# Altium integrated library Analog Devices RF IF Mixers and Multipliers.IntLib: 40 symbols (part 2 of 3)
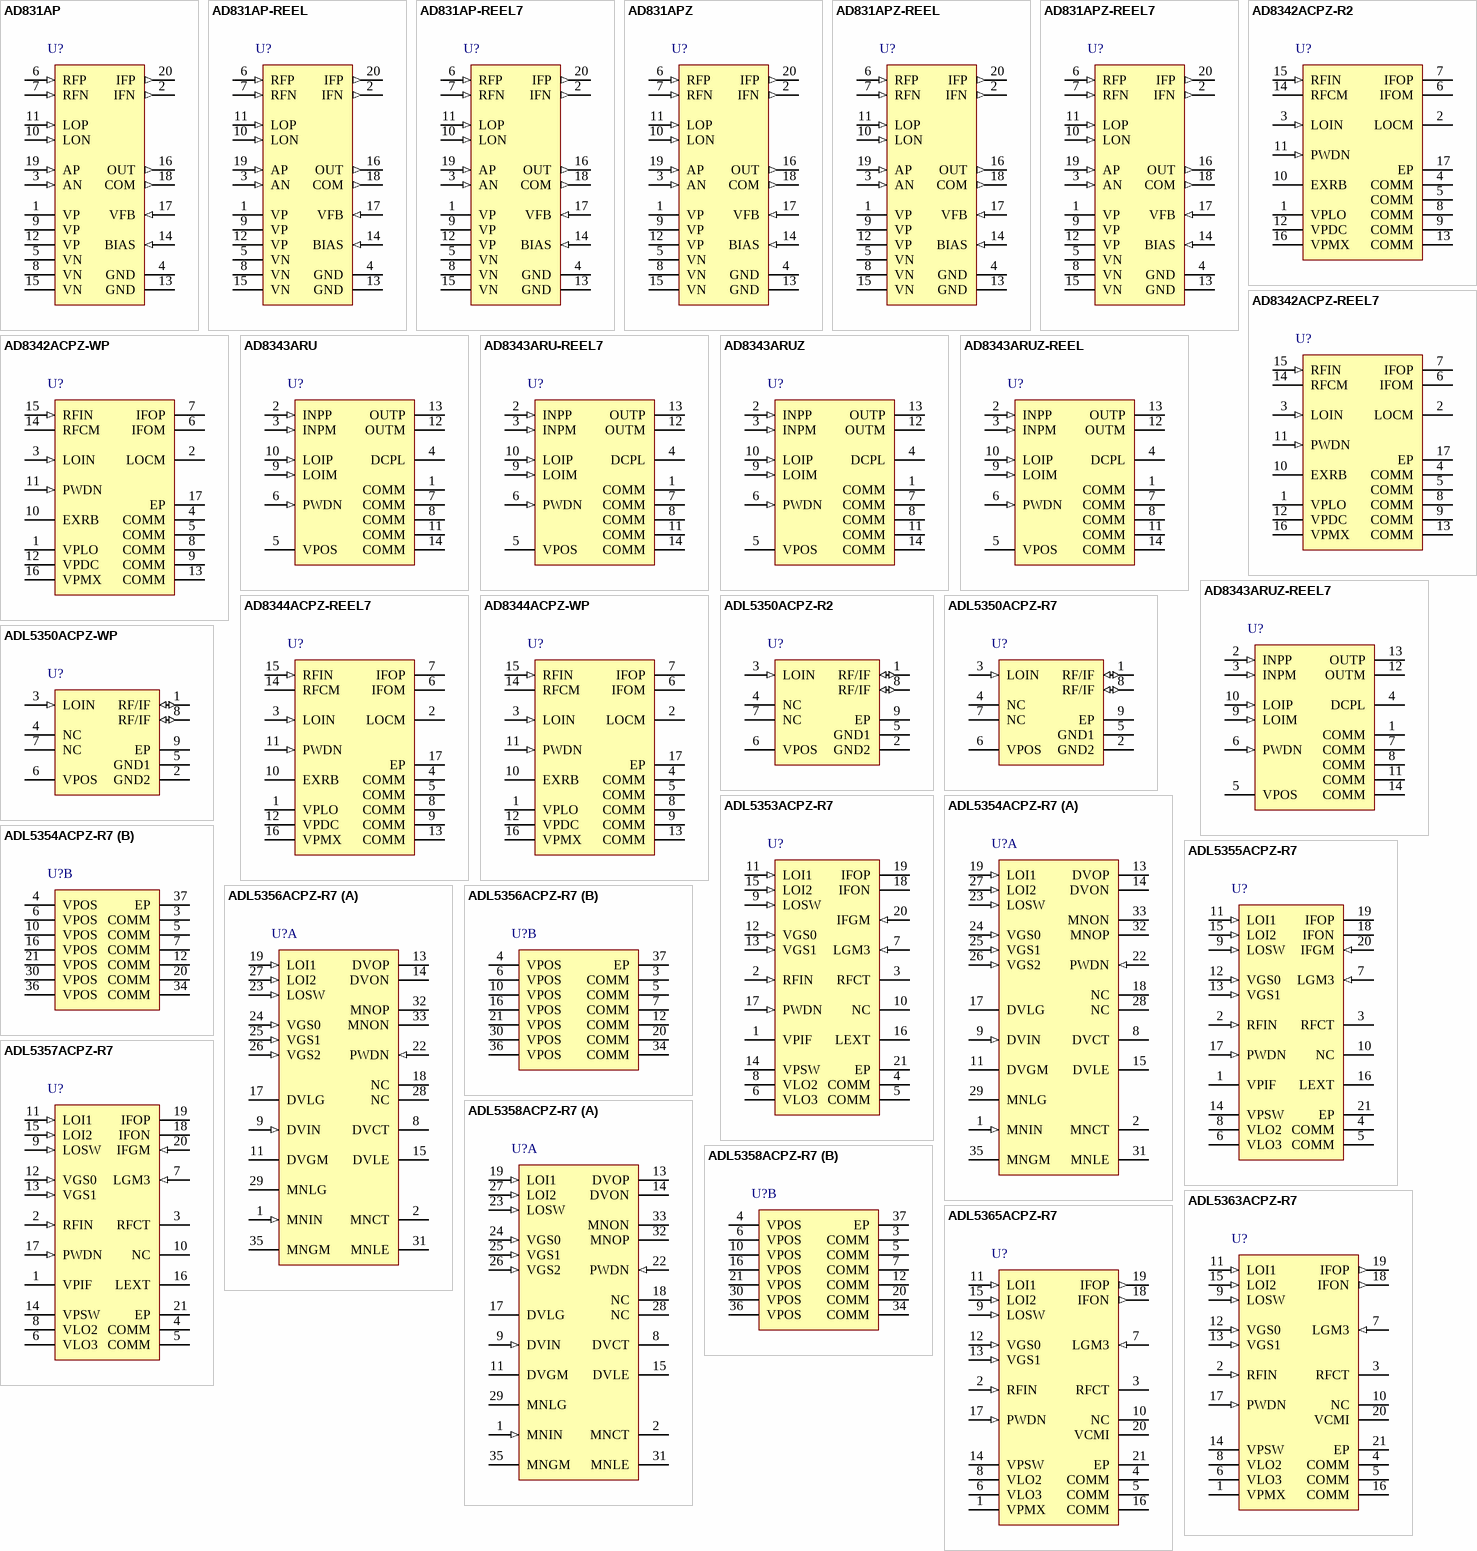
[diagram p2: symbols AD831AP to ADL5365ACPZ-R7]

## ADL5355ACPZ-R7
designator U?
1200 MHz to 2500 MHz Balanced Mixer, LO Buffer, IF Amplifier, and RF Balun, 190mA Supply Current, CP-20-5, Pb-Free, 1500 Reel; RF Frequency (MHZ): 1200-2500; IF Frequency (MHz): 30 to 450; LO Frequency (MHz): 1230 to 2470; Conversion Gain (dB): 8.4dB; IP3 (dBm): 27; P1dB (dBm): 10.4; NF (dB): 9.2dB; DatasheetVersion: Rev. 0; PackageVersion: 042209-B; PackageReference: CP-20-5; PackageDescription: 20-Lead Lead Frame Chip Scale Package [LFCSP_VQ]; Code_JEDEC: MO-220-VHHC; ComponentLink1Description: Manufacturer URL; ComponentLink1URL: www.analog.com; ComponentLink2Description: Datasheet; ComponentLink2URL: http://www.analog.com/static/imported-files/data_sheets/ADL5355.pdf; ComponentLink3Description: Package Specification; ComponentLink3URL: http://www.analog.com/static/imported-files/packages/PKG_PDF/LFCSP(CP)/CP_20_5.pdf
footprint ADI-CP-20-5_N (QFN, 20-Leads, Body 5x5mm, Pitch 0.65mm, Thermal Pad 3.1x3.1mm, IPC Medium Density)
footprint ADI-CP-20-5_L (QFN, 20-Leads, Body 5x5mm, Pitch 0.65mm, Thermal Pad 3.1x3.1mm, IPC High Density)
footprint ADI-CP-20-5_M (QFN, 20-Leads, Body 5x5mm, Pitch 0.65mm, Thermal Pad 3.1x3.1mm, IPC Low Density)
pins: 1 VPIF (power) "Positive Supply Voltage for IF Amplifier.", 2 RFIN (in) "RF Input. Must be ac-coupled.", 3 RFCT "RF Balun Center Tap (AC Ground).", 4 COMM (power) "Device Common (DC Ground).", 5 COMM (power) "Device Common (DC Ground).", 6 VLO3 (power) "Positive Supply Voltages for LO Amplifier.", 7 LGM3 (in) "LO Amplifier Bias Control.", 8 VLO2 (power) "Positive Supply Voltages for LO Amplifier.", 9 LOSW (in) "LO Switch. LOI1 selected for 0 V, and LOI2 selected for 3 V.", 10 NC "No Connect.", 11 LOI1 (in) "LO Inputs. Must be ac-coupled.", 12 VGS0 (in) "Mixer Gate Bias Controls. 3 V logic. Ground these pins for nominal setting.", 13 VGS1 (in) "Mixer Gate Bias Controls. 3 V logic. Ground these pins for nominal setting.", 14 VPSW (power) "Positive Supply Voltage for LO Switch.", 15 LOI2 (in) "LO Inputs. Must be ac-coupled.", 16 LEXT (power) "IF Return. This pin must be grounded.", 17 PWDN (in) "Power Down. Connect this pin to ground for normal operation and connect this pin to 3.0 V for disable mode.", 18 IFON (oc) "Differential IF Outputs (Open Collectors). Each requires an external dc bias.", 19 IFOP (oc) "Differential IF Outputs (Open Collectors). Each requires an external dc bias.", 20 IFGM (in) "IF Amplifier Bias Control.", 21 EP (power) "Exposed pad. Must be soldered to ground."

## ADL5356ACPZ-R7
designator U?
1200 MHz to 2500 MHz, Dual-Balanced Mixer, LO Buffer, IF Amplifier, and RF Balun, 350mA Supply Current, CP-36-1, Pb-Free, 750 Reel; RF Frequency (MHZ): 1200-2500; IF Frequency (MHz): 30 to 450; LO Frequency (MHz): 1230 to 2470; Conversion Gain (dB): 8.2dB; IP3 (dBm): 31; P1dB (dBm): 11; NF (dB): 9.9dB; DatasheetVersion: Rev. 0; PackageVersion: 050808-D; PackageReference: CP-36-1; PackageDescription: 36-Lead Lead Frame Chip Scale Package [LFCSP_VQ]; Code_JEDEC: MO-220-VJJD-1; ComponentLink1Description: Manufacturer URL; ComponentLink1URL: www.analog.com; ComponentLink2Description: Datasheet; ComponentLink2URL: http://www.analog.com/static/imported-files/data_sheets/ADL5356.pdf; ComponentLink3Description: Package Specification; ComponentLink3URL: http://www.analog.com/static/imported-files/packages/CP_36_1.pdf
footprint ADI-CP-36-1_N (QFN, 36-Leads, Body 6x6mm, Pitch 0.5mm, Thermal Pad 3.7x3.7mm, IPC Medium Density)
footprint ADI-CP-36-1_L (QFN, 36-Leads, Body 6x6mm, Pitch 0.5mm, Thermal Pad 3.7x3.7mm, IPC High Density)
footprint ADI-CP-36-1_M (QFN, 36-Leads, Body 6x6mm, Pitch 0.5mm, Thermal Pad 3.7x3.7mm, IPC Low Density)
part A pins: 1 MNIN (in) "RF Input for Main Channel. Internally matched to 50 ohm. Must be ac-coupled.", 2 MNCT "Center Tap for Main Channel Input Balun. Bypass to ground using low inductance capacitor.", 8 DVCT "Center Tap for Diversity Channel Input Balun. Bypass to ground using low inductance capacitor", 9 DVIN (in) "RF Input for Diversity Channel. Internally matched to 50 ohm. Must be ac-coupled", 11 DVGM "Diverstiy Amplifier Bias Setting. Connect 1.3 k ohm resistor to ground for typical operation.", 13 DVOP (oc) "Diversity Channel Differential Open-Collector Outputs. DVOP and DVON should be pulled-up to  VCC using external inductors.", 14 DVON (oc) "Diversity Channel Differential Open-Collector Outputs. DVOP and DVON should be pulled-up to  VCC using external inductors.", 15 DVLE (power) "Diversity Channel IF Return. This pin must be grounded", 17 DVLG "Diverstiy Channel LO Buffer Bias Setting. Connect 1 k ohm resistor to ground for typical operation.", 18 NC "No Connect", 19 LOI1 (in) "Local Oscillator Input 1. Internally matched to 50 ohm. Must be ac-coupled.", 22 PWDN (in) "Connect to Ground for Normal Operation. Connect pin to 3 V for disable mode when using  VPOS < 3.6 V. PWDN pin must be grounded when VPOS > 3.6 V?", 23 LOSW (in) "Local Oscillator Input Selection Switch. Set LOSW high to select LOI1 or set LOSW low to select LOI2.", 24 VGS0 (in) "Gate to Source Control Voltages. For typical operation, set VGS0, VGS1, and VGS2 to low logic level.", 25 VGS1 (in) "Gate to Source Control Voltages. For typical operation, set VGS0, VGS1, and VGS2 to low logic level.", 26 VGS2 (in) "Gate to Source Control Voltages. For typical operation, set VGS0, VGS1, and VGS2 to low logic level.", 27 LOI2 (in) "Local Oscillator Input 2. Internally matched to 50 ohm. Must be ac-coupled.", 28 NC "No Connect", 29 MNLG "Main Channel LO Buffer Bias Setting. Connect 1 k ohm resistor to ground for typical operation.", 31 MNLE (power) "Main Channel IF Return. This pin must be grounded.", 32 MNOP (oc) "Main Channel Differential Open-Collector Outputs. MNOP and MNON should be pulled-up to  VCC using external inductors", 33 MNON (oc) "Main Channel Differential Open-Collector Outputs. MNOP and MNON should be pulled-up to  VCC using external inductors", 35 MNGM "Main Amplifier Bias Setting. Connect 1.3 k ohm resistor to ground for typical operation."
part B pins: 3 COMM (power) "Device Common (DC Ground)", 4 VPOS (power) "Positive Supply Voltage", 5 COMM (power) "Device Common (DC Ground)", 6 VPOS (power) "Positive Supply Voltage", 7 COMM (power) "Device Common (DC Ground)", 10 VPOS (power) "Positive Supply Voltage", 12 COMM (power) "Device Common (DC Ground)", 16 VPOS (power) "Positive Supply Voltage", 20 COMM (power) "Device Common (DC Ground)", 21 VPOS (power) "Positive Supply Voltage", 30 VPOS (power) "Positive Supply Voltage", 34 COMM (power) "Device Common (DC Ground)", 36 VPOS (power) "Positive Supply Voltage", 37 EP (power) "Exposed pad must be connected to ground."

## ADL5357ACPZ-R7
designator U?
500 MHz to 1700 MHz Balanced Mixer, LO Buffer, IF Amplifier, and RF Balun, 190mA Supply Current, CP-20-5, Pb-Free, 1500 Reel; RF Frequency (MHZ): 500-1700; IF Frequency (MHz): 30 to 450; LO Frequency (MHz): 730 to 1670; Conversion Gain (dB): 8.6dB; IP3 (dBm): 26.6; P1dB (dBm): 10.2; NF (dB): 9.1dB; DatasheetVersion: Rev. 0; PackageVersion: 042209-B; PackageReference: CP-20-5; PackageDescription: 20-Lead Lead Frame Chip Scale Package [LFCSP_VQ]; Code_JEDEC: MO-220-VHHC; ComponentLink1Description: Manufacturer URL; ComponentLink1URL: www.analog.com; ComponentLink2Description: Datasheet; ComponentLink2URL: http://www.analog.com/static/imported-files/data_sheets/ADL5357.pdf; ComponentLink3Description: Package Specification; ComponentLink3URL: http://www.analog.com/static/imported-files/packages/PKG_PDF/LFCSP(CP)/CP_20_5.pdf
footprint ADI-CP-20-5_N (QFN, 20-Leads, Body 5x5mm, Pitch 0.65mm, Thermal Pad 3.1x3.1mm, IPC Medium Density)
footprint ADI-CP-20-5_L (QFN, 20-Leads, Body 5x5mm, Pitch 0.65mm, Thermal Pad 3.1x3.1mm, IPC High Density)
footprint ADI-CP-20-5_M (QFN, 20-Leads, Body 5x5mm, Pitch 0.65mm, Thermal Pad 3.1x3.1mm, IPC Low Density)
pins: 1 VPIF (power) "Positive Supply Voltage for IF Amplifier.", 2 RFIN (in) "RF Input. Must be ac-coupled.", 3 RFCT "RF Balun Center Tap (AC Ground)", 4 COMM (power) "Device Common (DC Ground).", 5 COMM (power) "Device Common (DC Ground).", 6 VLO3 (power) "Positive Supply Voltages for LO Amplifier.", 7 LGM3 (in) "LO Amplifier Bias Control.", 8 VLO2 (power) "Positive Supply Voltages for LO Amplifier.", 9 LOSW (in) "LO Switch. LOI1 selected for 0 V, and LOI2 selected for 3 V.", 10 NC "No Connect.", 11 LOI1 (in) "LO Inputs. Must be ac-coupled.", 12 VGS0 (in) "Mixer Gate Bias Controls. 3 V logic. Ground these pins for nominal setting.", 13 VGS1 (in) "Mixer Gate Bias Controls. 3 V logic. Ground these pins for nominal setting.", 14 VPSW (power) "Positive Supply Voltage for LO Switch.", 15 LOI2 (in) "LO Inputs. Must be ac-coupled.", 16 LEXT (power) "IF Return. This pin must be grounded.", 17 PWDN (in) "Power Down. Connect this pin to ground for normal operation and connect this pin to 3.0 V for disable mode.", 18 IFON (oc) "Differential IF Outputs (Open Collectors). Each requires an external dc bias.", 19 IFOP (oc) "Differential IF Outputs (Open Collectors). Each requires an external dc bias.", 20 IFGM (in) "IF Amplifier Bias Control.", 21 EP (power) "Exposed pad. Must be soldered to ground."

## ADL5358ACPZ-R7
designator U?
500 MHz to 1700 MHz, Dual-Balanced Mixer, LO Buffer, IF Amplifier, and RF Balun, 350mA Supply Current, CP-36-1, Pb-Free, 750 Reel; RF Frequency (MHZ): 500-1700; IF Frequency (MHz): 30 to 450; LO Frequency (MHz): 530-1670; Conversion Gain (dB): 8.3dB; IP3 (dBm): 25.2; P1dB (dBm): 10.6; NF (dB): 9.9dB; DatasheetVersion: Rev. 0; PackageVersion: 050808-D; PackageReference: CP-36-1; PackageDescription: 36-Lead Lead Frame Chip Scale Package [LFCSP_VQ]; Code_JEDEC: MO-220-VJJD-1; ComponentLink1Description: Manufacturer URL; ComponentLink1URL: www.analog.com; ComponentLink2Description: Datasheet; ComponentLink2URL: http://www.analog.com/static/imported-files/data_sheets/ADL5358.pdf; ComponentLink3Description: Package Specification; ComponentLink3URL: http://www.analog.com/static/imported-files/packages/CP_36_1.pdf
footprint ADI-CP-36-1_N (QFN, 36-Leads, Body 6x6mm, Pitch 0.5mm, Thermal Pad 3.7x3.7mm, IPC Medium Density)
footprint ADI-CP-36-1_L (QFN, 36-Leads, Body 6x6mm, Pitch 0.5mm, Thermal Pad 3.7x3.7mm, IPC High Density)
footprint ADI-CP-36-1_M (QFN, 36-Leads, Body 6x6mm, Pitch 0.5mm, Thermal Pad 3.7x3.7mm, IPC Low Density)
part A pins: 1 MNIN (in) "RF Input for Main Channel. Internally matched to 50 ohm. This pin must be ac-coupled.", 2 MNCT "Center Tap for Main Channel Input Balun. Bypass this pin to ground using low inductance capacitor.", 8 DVCT "Center Tap for Diversity Channel Input Balun. Bypass to ground using low inductance capacitor.", 9 DVIN (in) "RF Input for Diversity Channel. Internally matched to 50 ohm. This pin must be ac-coupled.", 11 DVGM "Diverstiy Amplifier Bias Setting. Connect a 1.3 k ohm resistor to ground for typical operation.", 13 DVOP (oc) "Diversity Channel Differential Open-Collector Outputs. DVOP and DVON should be pulled-up to  VCC using external inductors.", 14 DVON (oc) "Diversity Channel Differential Open-Collector Outputs. DVOP and DVON should be pulled-up to  VCC using external inductors.", 15 DVLE (power) "Diversity Channel IF Return. This pin must be grounded.", 17 DVLG "Diverstiy Channel LO Buffer Bias Setting. Connect a 1 k ohm resistor to ground for typical operation.", 18 NC "No Connect.", 19 LOI1 (in) "Local Oscillator Input 1. Internally matched to 50 ohm. This pin must be ac-coupled.", 22 PWDN (in) "Connect to Ground for Normal Operation. Connect this pin to 3 V for disable mode when using  VPOS < 3.6 V. PWDN pin must be grounded when VPOS > 3.6 V.", 23 LOSW (in) "Local Oscillator Input Selection Switch. Set LOSW high to select LOI1 or set LOSW low to select LOI2.", 24 VGS0 (in) "Gate to Source Control Voltages. For typical operation, set VGS0, VGS1, and VGS2 to low logic level.", 25 VGS1 (in) "Gate to Source Control Voltages. For typical operation, set VGS0, VGS1, and VGS2 to low logic level.", 26 VGS2 (in) "Gate to Source Control Voltages. For typical operation, set VGS0, VGS1, and VGS2 to low logic level.", 27 LOI2 (in) "Local Oscillator Input 2. Internally matched to 50 ohm. This pin must be ac-coupled.", 28 NC "No Connect.", 29 MNLG "Main Channel LO Buffer Bias Setting. Connect a 1 k ohm resistor to ground for typical operation.", 31 MNLE (power) "Main Channel IF Return. This pin must be grounded.", 32 MNOP (oc) "Main Channel Differential Open-Collector Outputs. MNOP and MNON should be pulled-up to  VCC using external inductors.", 33 MNON (oc) "Main Channel Differential Open-Collector Outputs. MNOP and MNON should be pulled-up to  VCC using external inductors.", 35 MNGM "Main Amplifier Bias Setting. Connect a 1.3 k ohm resistor to ground for typical operation."
part B pins: 3 COMM (power) "Device Common (DC Ground).", 4 VPOS (power) "Positive Supply Voltage.", 5 COMM (power) "Device Common (DC Ground).", 6 VPOS (power) "Positive Supply Voltage.", 7 COMM (power) "Device Common (DC Ground).", 10 VPOS (power) "Positive Supply Voltage.", 12 COMM (power) "Device Common (DC Ground).", 16 VPOS (power) "Positive Supply Voltage.", 20 COMM (power) "Device Common (DC Ground).", 21 VPOS (power) "Positive Supply Voltage.", 30 VPOS (power) "Positive Supply Voltage.", 34 COMM (power) "Device Common (DC Ground).", 36 VPOS (power) "Positive Supply Voltage.", 37 EP (power) "Exposed pad must be connected to ground"

## ADL5363ACPZ-R7
designator U?
2300 MHz to 2900 MHz Balanced Mixer, LO Buffer and RF Balun, 98mA Supply Current, CP-20-5, Pb-Free, 1500 Reel; RF Frequency (MHZ): 2200 to 2900; IF Frequency (MHz): dc to 450; LO Frequency (MHz): 2400 to 3100; Conversion Gain (dB): 7.8dB; IP3 (dBm): 31.2; P1dB (dBm): 20; NF (dB): 9.2dB; DatasheetVersion: Rev. 0; PackageVersion: 042209-B; PackageReference: CP-20-5; PackageDescription: 20-Lead Lead Frame Chip Scale Package [LFCSP_VQ]; Code_JEDEC: MO-220-VHHC; ComponentLink1Description: Manufacturer URL; ComponentLink1URL: www.analog.com; ComponentLink2Description: Datasheet; ComponentLink2URL: http://www.analog.com/static/imported-files/data_sheets/ADL5363.pdf; ComponentLink3Description: Package Specification; ComponentLink3URL: http://www.analog.com/static/imported-files/packages/PKG_PDF/LFCSP(CP)/CP_20_5.pdf
footprint ADI-CP-20-5_N (QFN, 20-Leads, Body 5x5mm, Pitch 0.65mm, Thermal Pad 3.1x3.1mm, IPC Medium Density)
footprint ADI-CP-20-5_L (QFN, 20-Leads, Body 5x5mm, Pitch 0.65mm, Thermal Pad 3.1x3.1mm, IPC High Density)
footprint ADI-CP-20-5_M (QFN, 20-Leads, Body 5x5mm, Pitch 0.65mm, Thermal Pad 3.1x3.1mm, IPC Low Density)
pins: 1 VPMX (power) "Positive Supply Voltage.", 2 RFIN (in) "RF Input. Must be ac-coupled.", 3 RFCT "RF Balun Center Tap (AC Ground)", 4 COMM (power) "Device Common (DC Ground)", 5 COMM (power) "Device Common (DC Ground)", 6 VLO3 (power) "Positive Supply Voltages for LO Amplifier", 7 LGM3 (in) "LO Amplifier Bias Control.", 8 VLO2 (power) "Positive Supply Voltages for LO Amplifier.", 9 LOSW (in) "LO Switch. LOI1 selected for 0 V, and LOI2 selected for 3 V.", 10 NC "No Connect.", 11 LOI1 (in) "LO Inputs. Must be ac-coupled.", 12 VGS0 (in) "Mixer Gate Bias Controls. 3 V logic. Ground these pins for nominal setting", 13 VGS1 (in) "Mixer Gate Bias Controls. 3 V logic. Ground these pins for nominal setting", 14 VPSW (power) "Positive Supply Voltage for LO Switch.", 15 LOI2 (in) "LO Inputs. Must be ac-coupled.", 16 COMM (power) "Device Common (DC Ground)", 17 PWDN (in) "Power Down. Connect this pin to ground for normal operation and connect this pin to 3.0 V for disable mode.", 18 IFON (out) "Differential IF Outputs.", 19 IFOP (out) "Differential IF Outputs.", 20 VCMI "No Connect. This pin can be grounded.", 21 EP (power) "Exposed pad. Must be soldered to ground."

## ADL5365ACPZ-R7
designator U?
1200 MHz to 2500 MHz Balanced Mixer, LO Buffer and RF Balun, 95mA Supply Current, CP-20-5, Pb-Free, 1500 Reel; RF Frequency (MHZ): 1200-2500; IF Frequency (MHz): dc to 450; LO Frequency (MHz): 1230 to 2470; Conversion Gain (dB): 7.3dB; IP3 (dBm): 36; NF (dB): 8.3dB; DatasheetVersion: Rev. 0; PackageVersion: 042209-B; PackageReference: CP-20-5; PackageDescription: 20-Lead Lead Frame Chip Scale Package [LFCSP_VQ]; Code_JEDEC: MO-220-VHHC; ComponentLink1Description: Manufacturer URL; ComponentLink1URL: www.analog.com; ComponentLink2Description: Datasheet; ComponentLink2URL: http://www.analog.com/static/imported-files/data_sheets/ADL5365.pdf; ComponentLink3Description: Package Specification; ComponentLink3URL: http://www.analog.com/static/imported-files/packages/PKG_PDF/LFCSP(CP)/CP_20_5.pdf
footprint ADI-CP-20-5_N (QFN, 20-Leads, Body 5x5mm, Pitch 0.65mm, Thermal Pad 3.1x3.1mm, IPC Medium Density)
footprint ADI-CP-20-5_L (QFN, 20-Leads, Body 5x5mm, Pitch 0.65mm, Thermal Pad 3.1x3.1mm, IPC High Density)
footprint ADI-CP-20-5_M (QFN, 20-Leads, Body 5x5mm, Pitch 0.65mm, Thermal Pad 3.1x3.1mm, IPC Low Density)
pins: 1 VPMX (power) "Positive Supply Voltage.", 2 RFIN (in) "RF Input. Must be ac-coupled", 3 RFCT "RF Balun Center Tap (AC Ground).", 4 COMM (power) "Device Common (DC Ground).", 5 COMM (power) "Device Common (DC Ground).", 6 VLO3 (power) "Positive Supply Voltages for LO Amplifier.", 7 LGM3 (in) "LO Amplifier Bias Control.", 8 VLO2 (power) "Positive Supply Voltages for LO Amplifier.", 9 LOSW (in) "LO Switch. LOI1 selected for 0 V, or LOI2 selected for 3 V.", 10 NC "No Connect.", 11 LOI1 (in) "LO Inputs. These pins must be ac-coupled.", 12 VGS0 (in) "Mixer Gate Bias Controls. 3 V logic. Ground these pins for nominal setting.", 13 VGS1 (in) "Mixer Gate Bias Controls. 3 V logic. Ground these pins for nominal setting.", 14 VPSW (power) "Positive Supply Voltage for LO Switch.", 15 LOI2 (in) "LO Inputs. These pins must be ac-coupled.", 16 COMM (power) "Device Common (DC Ground).", 17 PWDN (in) "Power-Down. Connect this pin to ground for normal operation or connect this pin to 3.0 V for disable mode.", 18 IFON (out) "Differential IF Outputs", 19 IFOP (out) "Differential IF Outputs", 20 VCMI "No Connect. This pin can be grounded.", 21 EP (power) "Exposed pad must be soldered to ground."

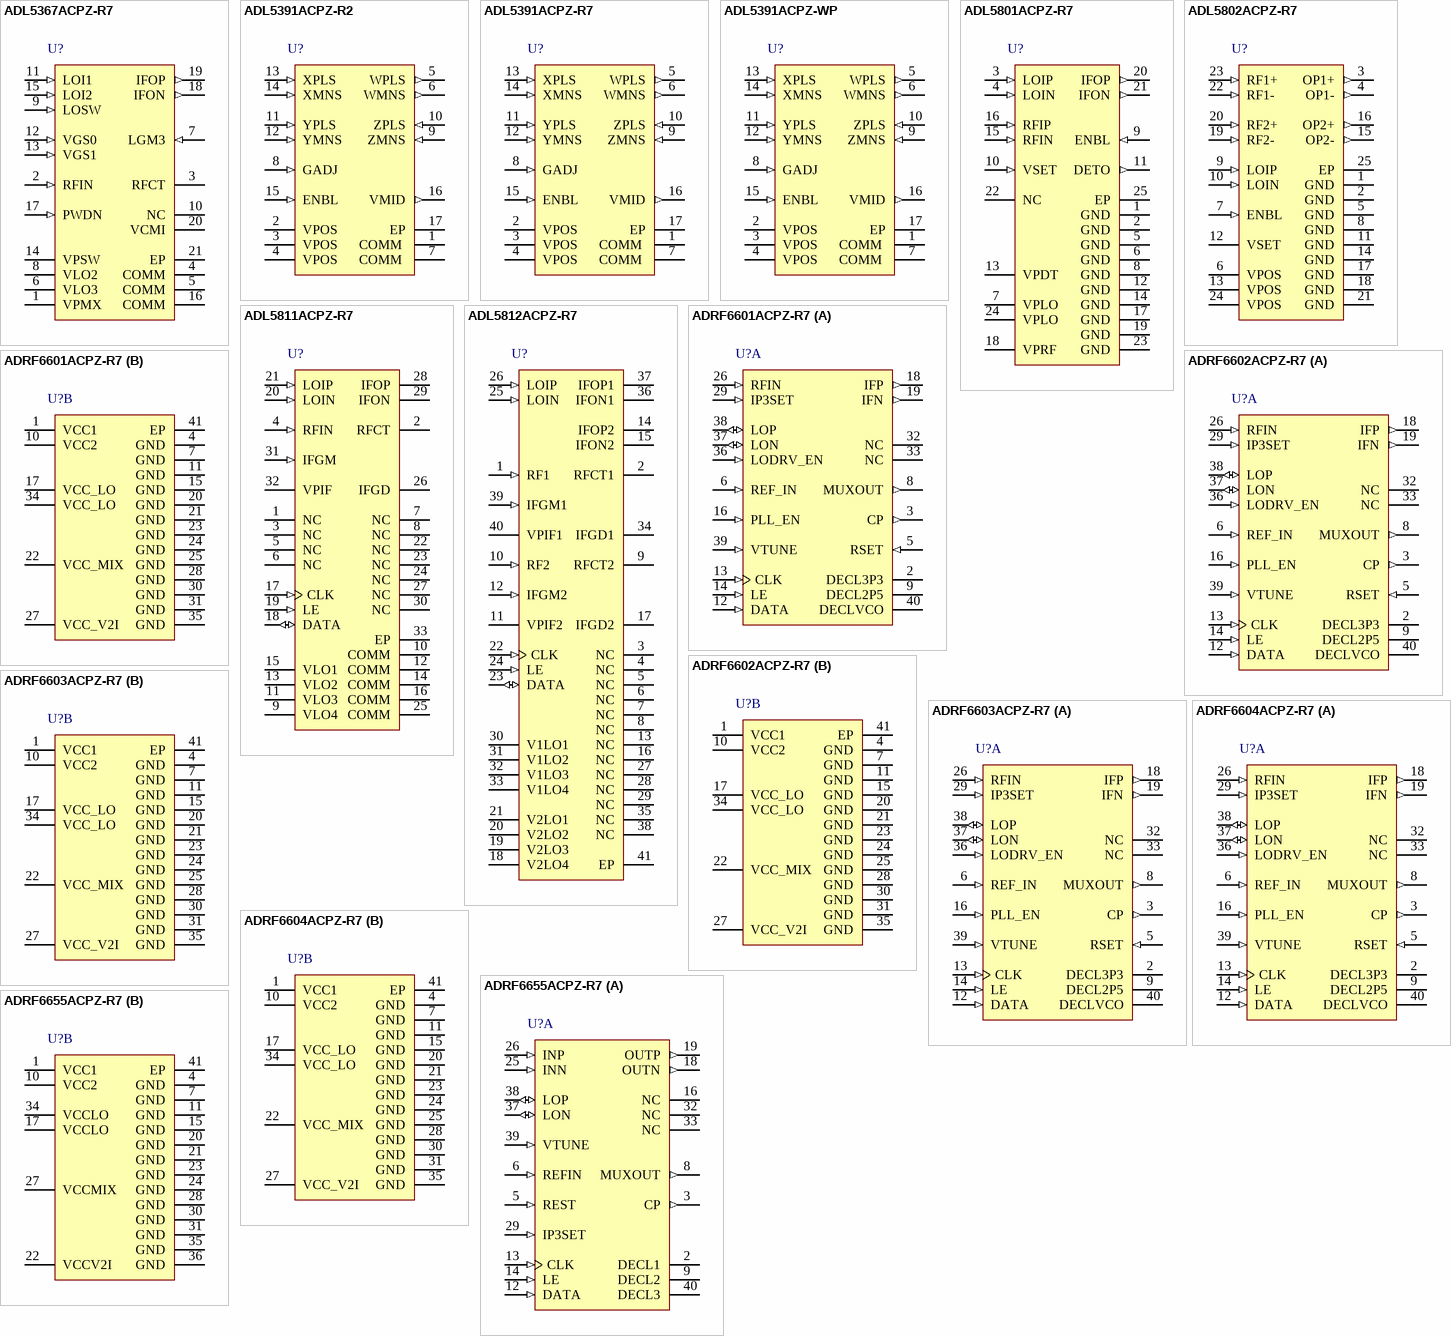
[diagram p1: symbols ADL5367ACPZ-R7 to ADRF6655ACPZ-R7]

## ADL5367ACPZ-R7
designator U?
500 MHz to 1700 MHz Balanced Mixer, LO Buffer and RF Balun, 97mA Supply Current, CP-20-5, Pb-Free, 1500 Reel; RF Frequency (MHZ): 500-1700; IF Frequency (MHz): dc to 450; LO Frequency (MHz): 730 to 1670; Conversion Gain (dB): 7.7dB; IP3 (dBm): 34; NF (dB): 8.3dB; DatasheetVersion: Rev. 0; PackageVersion: 042209-B; PackageReference: CP-20-5; PackageDescription: 20-Lead Lead Frame Chip Scale Package [LFCSP_VQ]; Code_JEDEC: MO-220-VHHC; ComponentLink1Description: Manufacturer URL; ComponentLink1URL: www.analog.com; ComponentLink2Description: Datasheet; ComponentLink2URL: http://www.analog.com/static/imported-files/data_sheets/ADL5367.pdf; ComponentLink3Description: Package Specification; ComponentLink3URL: http://www.analog.com/static/imported-files/packages/PKG_PDF/LFCSP(CP)/CP_20_5.pdf
footprint ADI-CP-20-5_N (QFN, 20-Leads, Body 5x5mm, Pitch 0.65mm, Thermal Pad 3.1x3.1mm, IPC Medium Density)
footprint ADI-CP-20-5_L (QFN, 20-Leads, Body 5x5mm, Pitch 0.65mm, Thermal Pad 3.1x3.1mm, IPC High Density)
footprint ADI-CP-20-5_M (QFN, 20-Leads, Body 5x5mm, Pitch 0.65mm, Thermal Pad 3.1x3.1mm, IPC Low Density)
pins: 1 VPMX (power) "Positive Supply Voltage for IF Amplifier.", 2 RFIN (in) "RF Input. This pin must be ac-coupled.", 3 RFCT "RF Balun Center Tap (AC Ground).", 4 COMM (power) "Device Common (DC Ground).", 5 COMM (power) "Device Common (DC Ground).", 6 VLO3 (power) "Positive Supply Voltages for LO Amplifier.", 7 LGM3 (in) "LO Amplifier Bias Control.", 8 VLO2 (power) "Positive Supply Voltages for LO Amplifier.", 9 LOSW (in) "LO Switch. LOI1 selected for 0 V, or LOI2 selected for 3 V", 10 NC "No Connect.", 11 LOI1 (in) "LO Inputs. This pin must be ac-coupled.", 12 VGS0 (in) "Mixer Gate Bias Controls. 3 V logic. Ground these pins for nominal setting.", 13 VGS1 (in) "Mixer Gate Bias Controls. 3 V logic. Ground these pins for nominal setting.", 14 VPSW (power) "Positive Supply Voltage for LO Switch.", 15 LOI2 (in) "LO Inputs. This pin must be ac-coupled.", 16 COMM (power) "Device Common (DC Ground)", 17 PWDN (in) "Power-Down. Connect this pin to ground for normal operation or connect this pin to 3.0 V for disable mode.", 18 IFON (out) "Differential IF Outputs", 19 IFOP (out) "Differential IF Outputs", 20 VCMI "No Connect. This pin can be grounded.", 21 EP (power) "Exposed pad must be soldered to ground."

## ADL5391ACPZ-R2
designator U?
DC to 2.0 GHz Multiplier, 16-Lead LFCSP, 1dB, 5.5V, 135mA, CP-16-3, Pb-Free, 250 Reel; RF Frequency (MHZ): dc to 2000; IP3 (dBm): 14; P1dB (dBm): 13.2; Min Pos Supply: 4.5V; DatasheetVersion: Rev. 0; PackageVersion: Jan-2005; PackageReference: CP-16-3; PackageDescription: 16-Lead Lead Frame Chip Scale Package [LFCSP_VQ]; Voltage Supply (V): 5.5V; Code_JEDEC: MO-220-VEED-2; ComponentLink1Description: Manufacturer URL; ComponentLink1URL: www.analog.com; ComponentLink2Description: Datasheet; ComponentLink2URL: http://www.analog.com/static/imported-files/data_sheets/ADL5391.pdf; ComponentLink3Description: Package Specification; ComponentLink3URL: http://www.analog.com/static/imported-files/packages/PKG_PDF/LFCSP(CP)/CP_16_3.pdf
footprint ADI-CP-16-3_N (QFN, 16-Leads, Body 3x3mm, Pitch 0.5mm, Thermal Pad 1.5x1.5mm, IPC Medium Density)
footprint ADI-CP-16-3_L (QFN, 16-Leads, Body 3x3mm, Pitch 0.5mm, Thermal Pad 1.5x1.5mm, IPC High Density)
footprint ADI-CP-16-3_M (QFN, 16-Leads, Body 3x3mm, Pitch 0.5mm, Thermal Pad 1.5x1.5mm, IPC Low Density)
pins: 1 COMM  (power) "Device Common. Connect via lowest possible impedance to external circuit common.", 2 VPOS (power) "Positive Supply Voltage. 4.5 V to 5.5 V.", 3 VPOS (power) "Positive Supply Voltage. 4.5 V to 5.5 V.", 4 VPOS (power) "Positive Supply Voltage. 4.5 V to 5.5 V.", 5 WPLS (out) "Differential Outputs.", 6 WMNS (out) "Differential Outputs.", 7 COMM  (power) "Device Common. Connect via lowest possible impedance to external circuit common.", 8 GADJ (in) "Denominator Scaling Input.", 9 ZMNS (in) "Differential Intercept Inputs. Must be ac-coupled. Differential impedance 50 O nominal.", 10 ZPLS (in) "Differential Intercept Inputs. Must be ac-coupled. Differential impedance 50 O nominal.", 11 YPLS (in) "Differential X-Multiplicand Inputs.", 12 YMNS (in) "Differential X-Multiplicand Inputs.", 13 XPLS (in) "Differential Y-Multiplicand Inputs.", 14 XMNS (in) "Differential Y-Multiplicand Inputs.", 15 ENBL (in) "Chip Enable. High to enable.", 16 VMID (out) "VPOS/2 Reference Output. Connect decoupling capacitor to circuit common.", 17 EP (power) "Exposed paddle"

## ADL5391ACPZ-R7
designator U?
DC to 2.0 GHz Multiplier, 16-Lead LFCSP, 1dB, 5.5V, 135mA, CP-16-3, Pb-Free, 1500 Reel; RF Frequency (MHZ): dc to 2000; IP3 (dBm): 14; P1dB (dBm): 13.2; Min Pos Supply: 4.5V; DatasheetVersion: Rev. 0; PackageVersion: Jan-2005; PackageReference: CP-16-3; PackageDescription: 16-Lead Lead Frame Chip Scale Package [LFCSP_VQ]; Voltage Supply (V): 5.5V; Code_JEDEC: MO-220-VEED-2; ComponentLink1Description: Manufacturer URL; ComponentLink1URL: www.analog.com; ComponentLink2Description: Datasheet; ComponentLink2URL: http://www.analog.com/static/imported-files/data_sheets/ADL5391.pdf; ComponentLink3Description: Package Specification; ComponentLink3URL: http://www.analog.com/static/imported-files/packages/PKG_PDF/LFCSP(CP)/CP_16_3.pdf
footprint ADI-CP-16-3_N (QFN, 16-Leads, Body 3x3mm, Pitch 0.5mm, Thermal Pad 1.5x1.5mm, IPC Medium Density)
footprint ADI-CP-16-3_L (QFN, 16-Leads, Body 3x3mm, Pitch 0.5mm, Thermal Pad 1.5x1.5mm, IPC High Density)
footprint ADI-CP-16-3_M (QFN, 16-Leads, Body 3x3mm, Pitch 0.5mm, Thermal Pad 1.5x1.5mm, IPC Low Density)
pins: 1 COMM  (power) "Device Common. Connect via lowest possible impedance to external circuit common.", 2 VPOS (power) "Positive Supply Voltage. 4.5 V to 5.5 V.", 3 VPOS (power) "Positive Supply Voltage. 4.5 V to 5.5 V.", 4 VPOS (power) "Positive Supply Voltage. 4.5 V to 5.5 V.", 5 WPLS (out) "Differential Outputs.", 6 WMNS (out) "Differential Outputs.", 7 COMM  (power) "Device Common. Connect via lowest possible impedance to external circuit common.", 8 GADJ (in) "Denominator Scaling Input.", 9 ZMNS (in) "Differential Intercept Inputs. Must be ac-coupled. Differential impedance 50 O nominal.", 10 ZPLS (in) "Differential Intercept Inputs. Must be ac-coupled. Differential impedance 50 O nominal.", 11 YPLS (in) "Differential X-Multiplicand Inputs.", 12 YMNS (in) "Differential X-Multiplicand Inputs.", 13 XPLS (in) "Differential Y-Multiplicand Inputs.", 14 XMNS (in) "Differential Y-Multiplicand Inputs.", 15 ENBL (in) "Chip Enable. High to enable.", 16 VMID (out) "VPOS/2 Reference Output. Connect decoupling capacitor to circuit common.", 17 EP (power) "Exposed paddle"

## ADL5391ACPZ-WP
designator U?
DC to 2.0 GHz Multiplier, 16-Lead LFCSP, 1dB, 5.5V, 135mA, CP-16-3, Pb-Free, 50 Tray; RF Frequency (MHZ): dc to 2000; IP3 (dBm): 14; P1dB (dBm): 13.2; Min Pos Supply: 4.5V; DatasheetVersion: Rev. 0; PackageVersion: Jan-2005; PackageReference: CP-16-3; PackageDescription: 16-Lead Lead Frame Chip Scale Package [LFCSP_VQ]; Voltage Supply (V): 5.5V; Code_JEDEC: MO-220-VEED-2; ComponentLink1Description: Manufacturer URL; ComponentLink1URL: www.analog.com; ComponentLink2Description: Datasheet; ComponentLink2URL: http://www.analog.com/static/imported-files/data_sheets/ADL5391.pdf; ComponentLink3Description: Package Specification; ComponentLink3URL: http://www.analog.com/static/imported-files/packages/PKG_PDF/LFCSP(CP)/CP_16_3.pdf
footprint ADI-CP-16-3_N (QFN, 16-Leads, Body 3x3mm, Pitch 0.5mm, Thermal Pad 1.5x1.5mm, IPC Medium Density)
footprint ADI-CP-16-3_L (QFN, 16-Leads, Body 3x3mm, Pitch 0.5mm, Thermal Pad 1.5x1.5mm, IPC High Density)
footprint ADI-CP-16-3_M (QFN, 16-Leads, Body 3x3mm, Pitch 0.5mm, Thermal Pad 1.5x1.5mm, IPC Low Density)
pins: 1 COMM  (power) "Device Common. Connect via lowest possible impedance to external circuit common.", 2 VPOS (power) "Positive Supply Voltage. 4.5 V to 5.5 V.", 3 VPOS (power) "Positive Supply Voltage. 4.5 V to 5.5 V.", 4 VPOS (power) "Positive Supply Voltage. 4.5 V to 5.5 V.", 5 WPLS (out) "Differential Outputs.", 6 WMNS (out) "Differential Outputs.", 7 COMM  (power) "Device Common. Connect via lowest possible impedance to external circuit common.", 8 GADJ (in) "Denominator Scaling Input.", 9 ZMNS (in) "Differential Intercept Inputs. Must be ac-coupled. Differential impedance 50 O nominal.", 10 ZPLS (in) "Differential Intercept Inputs. Must be ac-coupled. Differential impedance 50 O nominal.", 11 YPLS (in) "Differential X-Multiplicand Inputs.", 12 YMNS (in) "Differential X-Multiplicand Inputs.", 13 XPLS (in) "Differential Y-Multiplicand Inputs.", 14 XMNS (in) "Differential Y-Multiplicand Inputs.", 15 ENBL (in) "Chip Enable. High to enable.", 16 VMID (out) "VPOS/2 Reference Output. Connect decoupling capacitor to circuit common.", 17 EP (power) "Exposed paddle"

## ADL5801ACPZ-R7
designator U?
High IP3, 10 MHz to 6 GHz, Active Mixer, 130mA Supply Current, CP-24-3, Pb-Free, 1500 Reel; RF Frequency (MHZ): 10 to 6000; IF Frequency (MHz): LF to 3000; Conversion Gain (dB): 1.8dB; IP3 (dBm): 28.5; P1dB (dBm): 13.3; NF (dB): 9.75dB; DatasheetVersion: Rev. A; PackageVersion: Jan-2005; PackageReference: CP-24-3; PackageDescription: 24-Lead Lead Frame Chip Scale Package [LFCSP_VQ]; LO Frequency (MHz): 10 to 6000; Code_JEDEC: MO-220-VGGD-8; ComponentLink1Description: Manufacturer URL; ComponentLink1URL: www.analog.com; ComponentLink2Description: Datasheet; ComponentLink2URL: http://www.analog.com/static/imported-files/data_sheets/ADL5801.pdf; ComponentLink3Description: Package Specification; ComponentLink3URL: http://www.analog.com/static/imported-files/packages/56702234806764CP_24_3.pdf
footprint ADI-CP-24-3_N (QFN, 24-Leads, Body 4x4mm, Pitch 0.5mm, Thermal Pad 2.5x2.5mm, IPC Medium Density)
footprint ADI-CP-24-3_L (QFN, 24-Leads, Body 4x4mm, Pitch 0.5mm, Thermal Pad 2.5x2.5mm, IPC High Density)
footprint ADI-CP-24-3_M (QFN, 24-Leads, Body 4x4mm, Pitch 0.5mm, Thermal Pad 2.5x2.5mm, IPC Low Density)
pins: 1 GND (power) "Device Common (DC Ground).", 2 GND (power) "Device Common (DC Ground).", 3 LOIP (in) "Differential LO Input Terminal. Internally matched to 50 ohm. Must be ac-coupled.", 4 LOIN (in) "Differential LO Input Terminal. Internally matched to 50 ohm. Must be ac-coupled.", 5 GND (power) "Device Common (DC Ground).", 6 GND (power) "Device Common (DC Ground).", 7 VPLO (power) "Positive Supply Voltage for LO System.", 8 GND (power) "Device Common (DC Ground).", 9 ENBL (in) "Device Enable. Pull high to disable the device; pull low to enable.", 10 VSET (in) "Input IP3 Bias Adjustment. The voltage presented to the VSET pin sets the internal bias of the mixer core and allows for adaptive control of the input IP3 and NF characteristics of the mixer core.", 11 DETO (out) "Detector Output. The DETO pin should be loaded with a capacitor to ground. The developed voltage is proportional to the rms input level. When the DETO output voltage is connected to the VSET input pin, the part auto biases and increases input IP3 perform", 12 GND (power) "Device Common (DC Ground).", 13 VPDT (power) "Positive Supply Voltage for Detector.", 14 GND (power) "Device Common (DC Ground).", 15 RFIN (in) "Differential RF Input Terminal. Internally matched to 50 ohm differential input impedance. Must be  ac-coupled.", 16 RFIP (in) "Differential RF Input Terminal. Internally matched to 50 ohm differential input impedance. Must be  ac-coupled.", 17 GND (power) "Device Common (DC Ground).", 18 VPRF (power) "Positive Supply Voltage for RF Input System.", 19 GND (power) "Device Common (DC Ground).", 20 IFOP (out) "Differential IF Output Terminal. Bias must be applied through pull-up choke inductors or the center tap of the IF transformer.", 21 IFON (out) "Differential IF Output Terminal. Bias must be applied through pull-up choke inductors or the center tap of the IF transformer.", 22 NC "Not Connected.", 23 GND (power) "Device Common (DC Ground).", 24 VPLO (power) "Positive Supply Voltage for LO System.", 25 EP (power) "The exposed paddle must be soldered to ground."

## ADL5802ACPZ-R7
designator U?
Dual Channel, High IP3, 100 MHz to 6 GHz Active Mixer, 220mA Supply Current, CP-24-3, Pb-Free, 1500 Reel; RF Frequency (MHZ): 100 to 6000; IF Frequency (MHz): LF to 600; Conversion Gain (dB): 1.5dB; IP3 (dBm): 28; P1dB (dBm): 12; NF (dB): 11dB; DatasheetVersion: Rev. 0; PackageVersion: Jan-2005; PackageReference: CP-24-3; PackageDescription: 24-Lead Lead Frame Chip Scale Package [LFCSP_VQ]; LO Frequency (MHz): 100 to 6000; Code_JEDEC: MO-220-VGGD-8; ComponentLink1Description: Manufacturer URL; ComponentLink1URL: www.analog.com; ComponentLink2Description: Datasheet; ComponentLink2URL: http://www.analog.com/static/imported-files/data_sheets/ADL5802.pdf; ComponentLink3Description: Package Specification; ComponentLink3URL: http://www.analog.com/static/imported-files/packages/56702234806764CP_24_3.pdf
footprint ADI-CP-24-3_N (QFN, 24-Leads, Body 4x4mm, Pitch 0.5mm, Thermal Pad 2.5x2.5mm, IPC Medium Density)
footprint ADI-CP-24-3_L (QFN, 24-Leads, Body 4x4mm, Pitch 0.5mm, Thermal Pad 2.5x2.5mm, IPC High Density)
footprint ADI-CP-24-3_M (QFN, 24-Leads, Body 4x4mm, Pitch 0.5mm, Thermal Pad 2.5x2.5mm, IPC Low Density)
pins: 1 GND (power) "Device Common (DC Ground).", 2 GND (power) "Device Common (DC Ground).", 3 OP1+ (out) "Channel 1 Mixer Differential Output Terminals. Bias must be applied through pull-up choke inductors or the center tap of the IF transformer.", 4 OP1- (out) "Channel 1 Mixer Differential Output Terminals. Bias must be applied through pull-up choke inductors or the center tap of the IF transformer.", 5 GND (power) "Device Common (DC Ground).", 6 VPOS (power) "Positive Supply Voltage. 5.0 V nominal.", 7 ENBL (in) "Device Enable. Pull low or leave disconnected to enable the device; pull high to disable the device.", 8 GND (power) "Device Common (DC Ground).", 9 LOIP (in) "Differential LO Input Terminals. Internally matched to 50 O; must be ac-coupled.", 10 LOIN (in) "Differential LO Input Terminals. Internally matched to 50 O; must be ac-coupled.", 11 GND (power) "Device Common (DC Ground).", 12 VSET (power) "High Input IP3 Bias Control. For high input IP3 performance, apply ~4 V to 5 V. [see datesheet]", 13 VPOS (power) "Positive Supply Voltage. 5.0 V nominal.", 14 GND (power) "Device Common (DC Ground).", 15 OP2- (out) "Channel 2 Mixer Differential Output Terminals. Bias must be applied through pull-up choke inductors or the center tap of the IF transformer.", 16 OP2+ (out) "Channel 2 Mixer Differential Output Terminals. Bias must be applied through pull-up choke inductors or the center tap of the IF transformer.", 17 GND (power) "Device Common (DC Ground).", 18 GND (power) "Device Common (DC Ground).", 19 RF2- (in) "Differential RF Input Terminals for Channel 2. Internally matched to 50 O; must be ac-coupled.", 20 RF2+ (in) "Differential RF Input Terminals for Channel 2. Internally matched to 50 O; must be ac-coupled.", 21 GND (power) "Device Common (DC Ground).", 22 RF1- (in) "Differential RF Input Terminals for Channel 1. Internally matched to 50 O; must be ac-coupled.", 23 RF1+ (in) "Differential RF Input Terminals for Channel 1. Internally matched to 50 O; must be ac-coupled.", 24 VPOS (power) "Positive Supply Voltage. 5.0 V nominal.", 25 EP (power) "Exposed Paddle. Must be soldered to ground."

## ADL5811ACPZ-R7
designator U?
High IP3, 700 MHz to 2800 MHz, Double Balanced, Passive Mixer, IF Amplifier, and Wideband LO Amplifier, 185mA Supply Current, CP-32-13, Pb-Free, 1500 Reel; RF Frequency (MHZ): 700 to 2700; IF Frequency (MHz): 50 to 450; LO Frequency (MHz): 250 to 2800; Conversion Gain (dB): 7.5dB; IP3 (dBm): 27.5; P1dB (dBm): 12; NF (dB): 10.7dB; DatasheetVersion: Rev. 0; PackageVersion: 033009-A; PackageReference: CP-32-13; PackageDescription: 32-Lead Lead Frame Chip Scale Package [LFCSP_WQ; Code_JEDEC: MO-220-WHHD; ComponentLink1Description: Manufacturer URL; ComponentLink1URL: www.analog.com; ComponentLink2Description: Datasheet; ComponentLink2URL: http://www.analog.com/static/imported-files/data_sheets/ADL5811.pdf; ComponentLink3Description: Package Specification; ComponentLink3URL: http://www.analog.com/static/imported-files/packages/PKG_PDF/LFCSP(CP)/CP_32_13.pdf
footprint ADI-CP-32-13_N (QFN, 32-Leads, Body 5x5mm, Pitch 0.5mm, Thermal Pad 3.3x3.3mm, IPC Medium Density)
footprint ADI-CP-32-13_L (QFN, 32-Leads, Body 5x5mm, Pitch 0.5mm, Thermal Pad 3.3x3.3mm, IPC High Density)
footprint ADI-CP-32-13_M (QFN, 32-Leads, Body 5x5mm, Pitch 0.5mm, Thermal Pad 3.3x3.3mm, IPC Low Density)
pins: 1 NC "No Connect. Can be grounded.", 2 RFCT "RF Balun Center Tap (AC Ground).", 3 NC "No Connect. Can be grounded.", 4 RFIN (in) "RF Input. Should be ac-coupled.", 5 NC "No Connect. Can be grounded.", 6 NC "No Connect. Can be grounded.", 7 NC "No Connect. Can be grounded.", 8 NC "No Connect. Can be grounded.", 9 VLO4 (power) "Positive Supply Voltages for LO Amplifier.", 10 COMM (power) "Ground.", 11 VLO3 (power) "Positive Supply Voltages for LO Amplifier.", 12 COMM (power) "Ground.", 13 VLO2 (power) "Positive Supply Voltages for LO Amplifier.", 14 COMM (power) "Ground.", 15 VLO1 (power) "Positive Supply Voltages for LO Amplifier.", 16 COMM (power) "Ground.", 17 CLK (in) "Serial Port Interface Control.", 18 DATA (io) "Serial Port Interface Control.", 19 LE (in) "Serial Port Interface Control.", 20 LOIN (in) "Ground Return for LO Input.", 21 LOIP (in) "LO Input. Should be ac-coupled.", 22 NC "No Connect. Can be grounded.", 23 NC "No Connect. Can be grounded.", 24 NC "No Connect. Can be grounded.", 25 COMM (power) "Ground.", 26 IFGD (power) "Supply Return for IF Amplifier. Must be grounded.", 27 NC "No Connect. Can be grounded.", 28 IFOP (oc) "IF Differential Open-Collector Outputs. Should be pulled up to VCC using external inductors.", 29 IFON (oc) "IF Differential Open-Collector Outputs. Should be pulled up to VCC using external inductors.", 30 NC "No Connect. Can be grounded.", 31 IFGM (in) "IF Amplifier Bias Control.", 32 VPIF (power) "Supply Voltage for IF Amplifier.", 33 EP (power) "Exposed pad must be connected to ground."

## ADL5812ACPZ-R7
designator U?
Dual High IP3, 700 MHz to 2800 MHz, Double Balanced, Passive Mixer, IF Amplifier, and Wideband LO Amplifier, 412mA Supply Current, CP-40-6, Pb-Free, 750 Reel; RF Frequency (MHZ): 700 to 2700; IF Frequency (MHz): 50 to 450; LO Frequency (MHz): 250 to 2800; Conversion Gain (dB): 6.7dB; IP3 (dBm): 27.2; P1dB (dBm): 11; NF (dB): 11.6dB; DatasheetVersion: Rev. 0; PackageVersion: 042408-A; PackageReference: CP-40-6; PackageDescription: 40-Lead Lead Frame Chip Scale Package [LFCSP_VQ]; Code_JEDEC: MO-208; ComponentLink1Description: Manufacturer URL; ComponentLink1URL: www.analog.com; ComponentLink2Description: Datasheet; ComponentLink2URL: http://www.analog.com/static/imported-files/data_sheets/ADL5812.pdf; ComponentLink3Description: Package Specification; ComponentLink3URL: http://www.analog.com/static/imported-files/packages/PKG_PDF/LFCSP(CP)/CP-40/CP_40_6.pdf
footprint ADI-CP-40-6_N (QFN, 40-Leads, Body 6x6mm, Pitch 0.5mm, Thermal Pad 4.15x4.15mm, IPC Medium Density)
footprint ADI-CP-40-6_L (QFN, 40-Leads, Body 6x6mm, Pitch 0.5mm, Thermal Pad 4.15x4.15mm, IPC High Density)
footprint ADI-CP-40-6_M (QFN, 40-Leads, Body 6x6mm, Pitch 0.5mm, Thermal Pad 4.15x4.15mm, IPC Low Density)
pins: 1 RF1 (in) "RF Input. Should be ac-coupled.", 2 RFCT1 "RF Balun Center Tap (AC Ground).", 3 NC "No Connect. Can be grounded.", 4 NC "No Connect. Can be grounded.", 5 NC "No Connect. Can be grounded.", 6 NC "No Connect. Can be grounded.", 7 NC "No Connect. Can be grounded.", 8 NC "No Connect. Can be grounded.", 9 RFCT2 "RF Balun Center Tap (AC Ground).", 10 RF2 (in) "RF Input. Should be ac-coupled.", 11 VPIF2 (power) "Supply Voltage for IF Amplifier", 12 IFGM2 (in) "IF Amplifier Bias Control.", 13 NC "No Connect. Can be grounded.", 14 IFOP2 (oc) "Differential Open-Collector IF Outputs. Should be pulled up to VCC via external inductor", 15 IFON2 (oc) "Differential Open-Collector IF Outputs. Should be pulled up to VCC via external inductor", 16 NC "No Connect. Can be grounded.", 17 IFGD2 (power) "Supply Return for IF Amplifier. Must be grounded", 18 V2LO4 (power) "Positive Supply Voltages for LO Amplifiers", 19 V2LO3 (power) "Positive Supply Voltages for LO Amplifiers", 20 V2LO2 (power) "Positive Supply Voltages for LO Amplifiers", 21 V2LO1 (power) "Positive Supply Voltages for LO Amplifiers", 22 CLK (in) "Serial Port Interface Control.", 23 DATA (io) "Serial Port Interface Control.", 24 LE (in) "Serial Port Interface Control.", 25 LOIN (in) "Ground Return for LO Input. Must be ac couple", 26 LOIP (in) "LO Input. Should be ac-coupled", 27 NC "No Connect. Can be grounded.", 28 NC "No Connect. Can be grounded.", 29 NC "No Connect. Can be grounded.", 30 V1LO1 (power) "Positive Supply Voltages for LO Amplifiers", 31 V1LO2 (power) "Positive Supply Voltages for LO Amplifiers", 32 V1LO3 (power) "Positive Supply Voltages for LO Amplifiers", 33 V1LO4 (power) "Positive Supply Voltages for LO Amplifiers", 34 IFGD1 (power) "Supply Return for IF Amplifier. Must be grounded", 35 NC "No Connect. Can be grounded.", 36 IFON1 (oc) "Differential Open-Collector IF Outputs. Should be pulled up to VCC via external inductor", 37 IFOP1 (oc) "Differential Open-Collector IF Outputs. Should be pulled up to VCC via external inductor", 38 NC "No Connect. Can be grounded.", 39 IFGM1 (in) "IF Amplifier Bias Control.", 40 VPIF1 (power) "Supply Voltage for IF Amplifier", 41 EP (power) "Exposed Pad."

## ADRF6601ACPZ-R7
designator U?
750 MHz to 1160 MHz Rx Mixer with Integrated Fractional-N PLL and VCO, 6.7dB, 5.25V, 280mA, CP-40-1, Pb-Free, 750 Reel; RF Frequency (MHZ): 300-2500; IF Frequency (MHz): dc to 500; LO Frequency (MHz): 750 to1160; LO Drive (dBm): 6; IP3 (dBm): 31; P1dB (dBm): 14.5; NF (dB): 13dB; DatasheetVersion: Rev. A; PackageVersion: Oct-2006; PackageReference: CP-40-1; PackageDescription: 40-Lead Lead Frame Chip Scale Package [LFCSP_VQ]; Conversion Gain (dB): 6.7dB; Code_JEDEC: MO-220-VJJD-2; ComponentLink1Description: Manufacturer URL; ComponentLink1URL: www.analog.com; ComponentLink2Description: Datasheet; ComponentLink2URL: http://www.analog.com/static/imported-files/data_sheets/ADRF6601.pdf; ComponentLink3Description: Package Specification; ComponentLink3URL: http://www.analog.com/static/imported-files/packages/PKG_PDF/LFCSP(CP)/CP_40_1.pdf
footprint ADI-CP-40-1_N (QFN, 40-Leads, Body 6x6mm, Pitch 0.5mm, Thermal Pad 4.3x4.3mm, IPC Medium Density)
footprint ADI-CP-40-1_L (QFN, 40-Leads, Body 6x6mm, Pitch 0.5mm, Thermal Pad 4.3x4.3mm, IPC High Density)
footprint ADI-CP-40-1_M (QFN, 40-Leads, Body 6x6mm, Pitch 0.5mm, Thermal Pad 4.3x4.3mm, IPC Low Density)
part A pins: 2 DECL3P3 "Decoupling Node for the 3.3 V LDO. Connect a 0.1 uF capacitor between this pin and ground.", 3 CP (out) "Charge Pump Output Pin. Connect to VTUNE through the loop filter.", 5 RSET (in) "Charge Pump Current. The nominal charge pump current can be set to 250 uA, 500 uA, 750 uA, or 1 mA using Bit DB11 and Bit DB10 in Register 4 and by setting Bit DB18 in Register 4 to 0 (internal reference current). [see datasheet]", 6 REF_IN (in) "Reference Input. Nominal input level is 1 V p-p. Input range is 12 MHz to 160 MHz. This pin is internally dc- biased and should be ac-coupled.", 8 MUXOUT (out) "Multiplexer Output. This output can be programmed to provide the reference output signal or the lock detect signal. The output is selected by programming the appropriate register.", 9 DECL2P5 "Decoupling Node for 2.5 V LDO. Connect a 0.1 uF capacitor between this pin and ground.", 12 DATA (in) "Serial Data Input. The serial data input is loaded MSB first; the three LSBs are the control bits.", 13 CLK (in) "Serial Clock Input. The serial clock input is used to clock in the serial data to the registers. The datais latched into the 24-bit shift register on the CLK rising edge. [see datasheet]", 14 LE (in) "Load Enable. When the LE input pin goes high, the data stored in the shift register is loaded into one of the eight registers. [see datasheet]", 16 PLL_EN (in) "PLL Enable. Switch between internal PLL and external LO input. When this pin is logic high, themixer LO is automatically switched to the internal PLL and the internal PLL is powered up. [see datasheet]", 18 IFP (out) "Mixer IF Outputs. These outputs should be pulled to VCC_MIX with RF chokes.", 19 IFN (out) "Mixer IF Outputs. These outputs should be pulled to VCC_MIX with RF chokes.", 26 RFIN (in) "RF Input. Single-ended, 50 ohm.", 29 IP3SET (in) "Connect a resistor from this pin to a 5 V supply to adjust IIP3. Normally leave open.", 32 NC "NC = No Connect. Do not connect to this pin.", 33 NC "NC = No Connect. Do not connect to this pin.", 36 LODRV_EN (in) "LO Driver Enable. Together with Pin 16 (PLL_EN), this digital input pin determines whether the LOP and LON pins operate as inputs or outputs. [see datasheet]", 37 LON (io) "Local Oscillator Input/Output. The internally generated 1x LO is available on these pins. When internal LO generation is disabled, an external 1x LO can be applied to these pins.", 38 LOP (io) "Local Oscillator Input/Output. The internally generated 1x LO is available on these pins. When internal LO generation is disabled, an external 1x LO can be applied to these pins.", 39 VTUNE (in) "VCO Control Voltage Input. This pin is driven by the output of the loop filter. The nominal input voltage range on this pin is 1.5 V to 2.5 V.", 40 DECLVCO "Decoupling Node for VCO LDO. Connect a 100 pF capacitor and a 10 uF capacitor between this pin and ground."
part B pins: 1 VCC1 (power) "Power Supply for the 3.3 V LDO. Power supply voltage range is 4.75 V to 5.25 V. Each power supply pin should be decoupled with a 100 pF capacitor and a 0.1 uF capacitor located close to the pin", 4 GND (power) "Ground. Connect these pins to a low impedance ground plane.", 7 GND (power) "Ground. Connect these pins to a low impedance ground plane.", 10 VCC2 (power) "Power Supply for the 2.5 V LDO. Power supply voltage range is 4.75 V to 5.25 V. Each power supply pin should be decoupled with a 100 pF capacitor and a 0.1 uF capacitor located close to the pin. [see datasheet]", 11 GND (power) "Ground. Connect these pins to a low impedance ground plane.", 15 GND (power) "Ground. Connect these pins to a low impedance ground plane.", 17 VCC_LO (power) "Power Supply. Power supply voltage range is 4.75 V to 5.25 V. Each power supply pin should be decoupled with a 100 pF capacitor and a 0.1 uF capacitor located close to the pin.", 20 GND (power) "Ground. Connect these pins to a low impedance ground plane.", 21 GND (power) "Ground. Connect these pins to a low impedance ground plane.", 22 VCC_MIX (power) "Power Supply. Power supply voltage range is 4.75 V to 5.25 V. Each power supply pin should be decoupled with a 100 pF capacitor and a 0.1 uF capacitor located close to the pin.", 23 GND (power) "Ground. Connect these pins to a low impedance ground plane.", 24 GND (power) "Ground. Connect these pins to a low impedance ground plane.", 25 GND (power) "Ground. Connect these pins to a low impedance ground plane.", 27 VCC_V2I (power) "Power Supply. Power supply voltage range is 4.75 V to 5.25 V. Each power supply pin should be decoupled with a 100 pF capacitor and a 0.1 uF capacitor located close to the pin.", 28 GND (power) "Ground. Connect these pins to a low impedance ground plane.", 30 GND (power) "Ground. Connect these pins to a low impedance ground plane.", 31 GND (power) "Ground. Connect these pins to a low impedance ground plane.", 34 VCC_LO (power) "Power Supply. Power supply voltage range is 4.75 V to 5.25 V. Each power supply pin should be decoupled with a 100 pF capacitor and a 0.1 uF capacitor located close to the pin.", 35 GND (power) "Ground. Connect these pins to a low impedance ground plane.", 41 EP (power) "Exposed Paddle. The exposed paddle should be soldered to a low impedance ground plane."